# EAGLE library part WE-DS_216612043 (library Wurth_Elektronik_Passive_rev16b)
WE-DS D-SUB-Filter Connectors Bent 90° Characteristics Standard type filtered with 1000 pF High attenuation of more than 40 dB @ 180 MHz Choice of earthing metal sheet or high speed earthing clip Rated voltage: 100 VDC Rated current @ 20 ºC: 5 A Withstand voltage: 250 VRMS Insulation resistance: min. 1000 MΩ Operating temperature: –55 ºC to +125 ºC Applications Filtering of interfaces External connection to -printer -sensor -display <http://katalog.we-online.de/media/thumbs2/eisos/thb_AbsDSubFilter_abgewinkelt_pf2.jpg> Details see: http://katalog.we-online.de/en/pbs/Filter_abgewinkelt Created on 2015-05-04 2015 (C) Wurth Elektronik
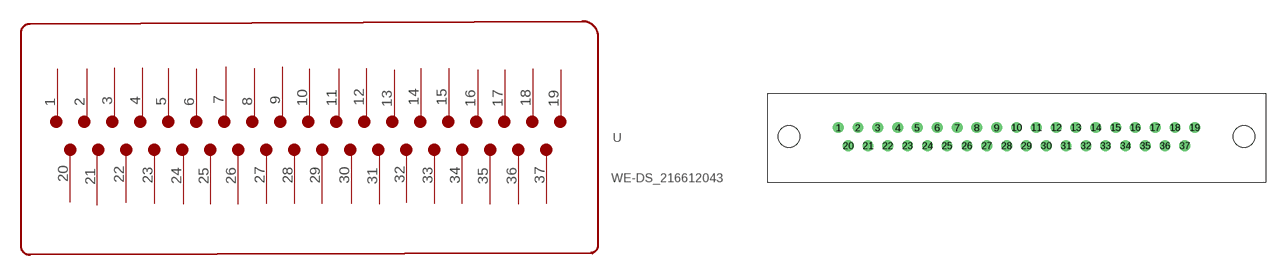
[diagram p210: symbol with the pads of WE-DS_216612043; footprint WE-DS_216612043]

Designator prefix -

## WE-DS_216612043  [WE-DS_216612043]
1  1
2  2
3  3
4  4
5  5
6  6
7  7
8  8
9  9
10  10
11  11
12  12
13  13
14  14
15  15
16  16
17  17
18  18
19  19
20  20
21  21
22  22
23  23
24  24
25  25
26  26
27  27
28  28
29  29
30  30
31  31
32  32
33  33
34  34
35  35
36  36
37  37

## Footprint WE-DS_216612043 (pad centres in mm)
drill 1: 1 -24.84,0; 2 -22.1,0; 3 -19.33,0; 4 -16.56,0; 5 -13.82,0; 6 -11.05,0; 7 -8.28,0; 8 -5.54,0; 9 -2.77,0; 10 0,0; 11 2.77,0; 12 5.54,0; 13 8.28,0; 14 11.05,0; 15 13.82,0; 16 16.56,0; 17 19.33,0; 18 22.1,0; 19 24.84,0; 20 -23.47,-2.54; 21 -20.7,-2.54; 22 -17.96,-2.54; 23 -15.19,-2.54; 24 -12.42,-2.54; 25 -9.68,-2.54; 26 -6.91,-2.54; 27 -4.14,-2.54; 28 -1.38,-2.54; 29 1.38,-2.54; 30 4.14,-2.54; 31 6.91,-2.54; 32 9.68,-2.54; 33 12.42,-2.54; 34 15.19,-2.54; 35 17.96,-2.54; 36 20.7,-2.54; 37 23.47,-2.54
hole 3 at -31.75,-1.27
hole 3 at 31.75,-1.27